# Altium footprint library TIDA-01415.PcbLib: 34 footprints (part 2 of 3)
Each footprint in its own frame and in the unit in brackets; x right, y up, seen from the top. Pads: shape width x height; smd on the part's side, far side on the other; paste and mask are expansions set on the pad; w line width, h text height; cw(c..) or ccw(c..) is an arc to the next point about the centre after c.
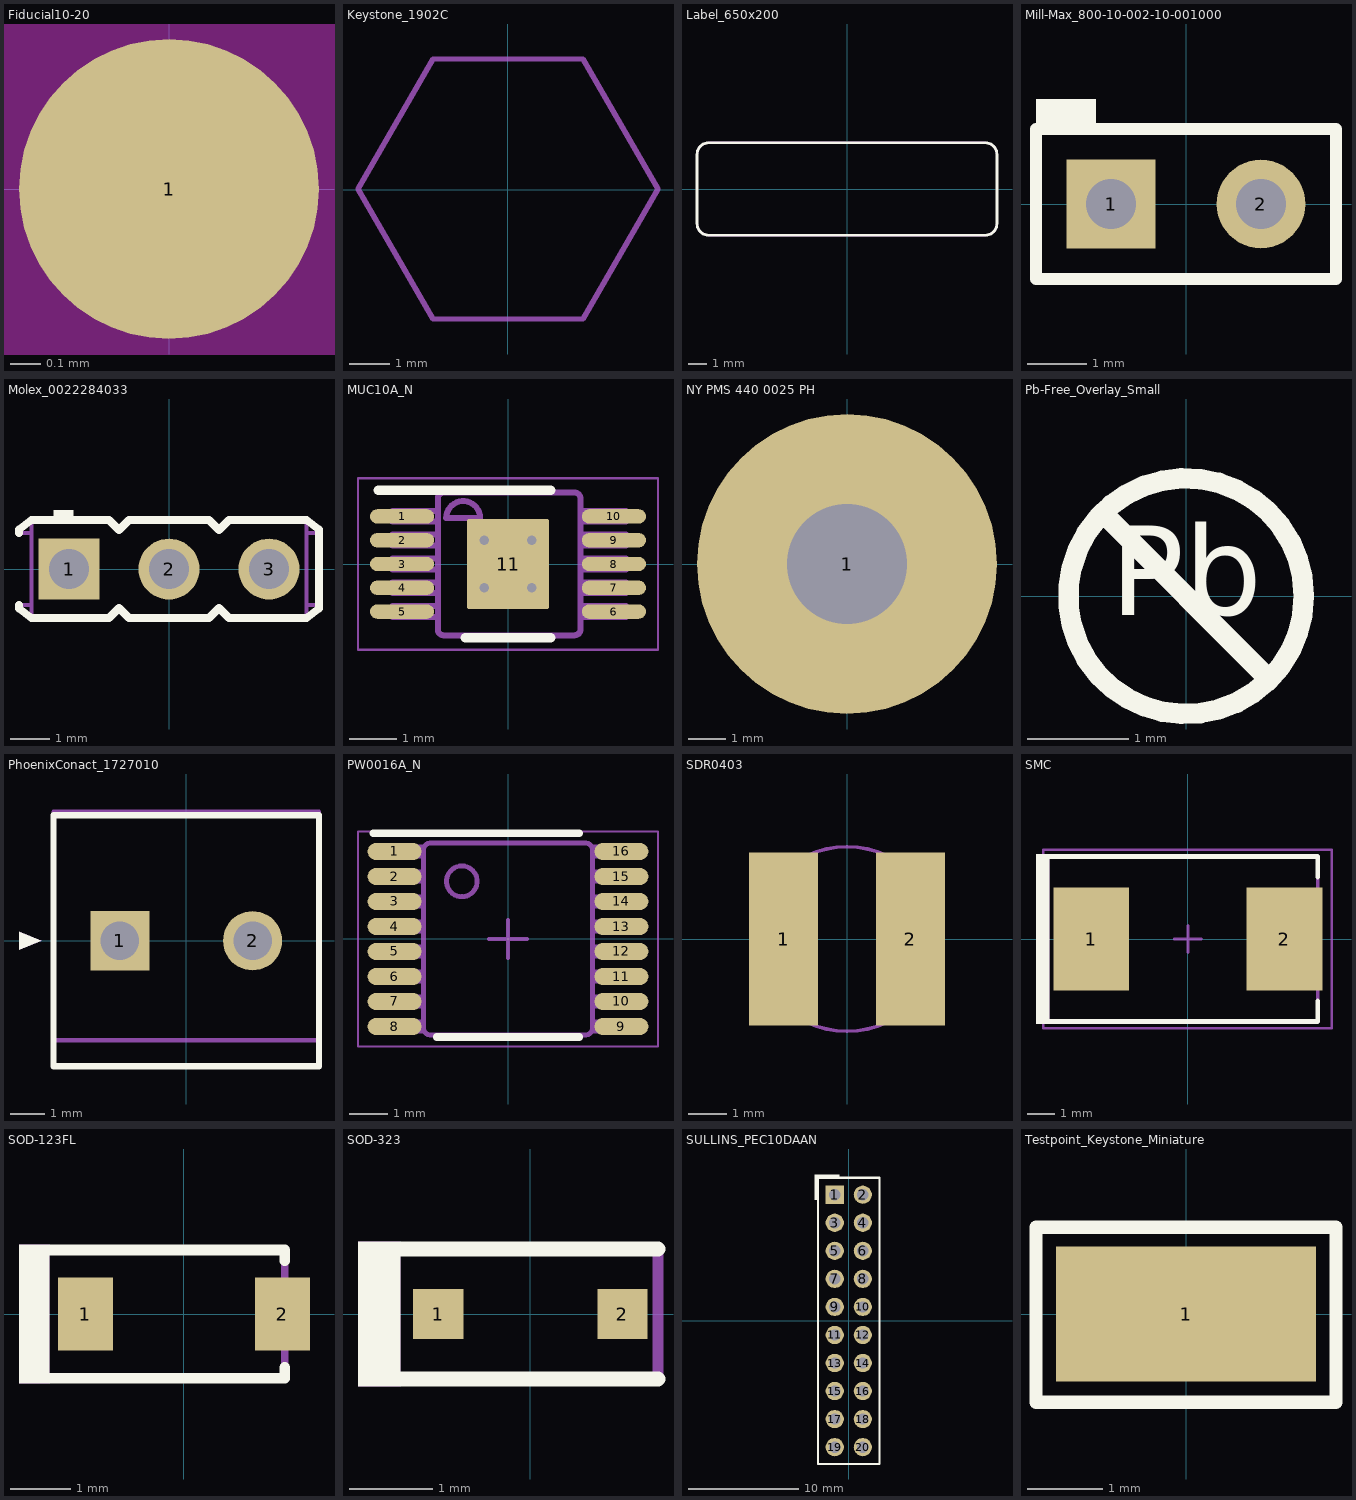
[diagram p1: the footprints below, top view; thin cyan lines are the x and y axes]

## Fiducial10-20 [mm]
pads (1):
  round 1 smd mask+0.5: 1(0,0)
Top Layer keep-out:
  circle w1.178: c0,0 r0.5

## Keystone_1902C [mm] "Hex Standoff, 4-40 threaded, nylon"
height 12.7
Mechanical 5:
  lines w0.127: -3.69,0.012 -1.843,3.212 1.852,3.212 3.7,0.012 1.852,-3.188 -1.843,-3.188 -3.69,0.012
  text ".Designator" at -1.041,-0.559 h0.76
3D body "Keystone_1902C.stp": height 12.73, standoff 0.03, extent -3.682,-3.2 3.708,3.2

## Label_650x200 [mm] "Thermal Transfer Label"
height 0.025
Top Overlay:
  lines w0.152: -8.255,-1.905 ccw(c-7.62,-1.905) -7.62,-2.54 7.62,-2.54 ccw(c7.62,-1.905) 8.255,-1.905 8.255,1.905 ccw(c7.62,1.905) 7.62,2.54 -7.62,2.54 ccw(c-7.62,1.905) -8.255,1.905 -8.255,-1.905
Mechanical 5:
  lines w0.127: -8.255,-1.905 ccw(c-7.62,-1.905) -7.62,-2.54 7.62,-2.54 ccw(c7.62,-1.905) 8.255,-1.905 8.255,1.905 ccw(c7.62,1.905) 7.62,2.54 -7.62,2.54 ccw(c-7.62,1.905) -8.255,1.905 -8.255,-1.905
  text ".Designator" at -1.524,-0.508 h0.76
3D body: height 0.03, standoff 0, extent -8.256,-2.541 8.256,2.541

## Mill-Max_800-10-002-10-001000 [mm] "Mill-Max"
height 8.128
pads (2):
  rect 1.5x1.5 hole 0.85: 1(-1.27,0)
  round 1.5 hole 0.85: 2(1.27,0)
Top Overlay:
  rectangle: -2.54,1.27 -1.524,1.778
  lines w0.203: -2.54,-1.27 2.54,-1.27 2.54,1.27 -2.54,1.27 -2.54,-1.27
Mechanical 5:
  lines w0.102: -2.54,-1.27 -2.54,1.27 2.54,1.27 2.54,-1.27 -2.54,-1.27
  text ".Designator" at 1.397,0.381 h0.76
3D body: height 3.17, standoff 0, extent -2.539,-1.269 2.539,1.269
3D body: height 8.13, standoff 0, extent 0.892,-0.38 1.651,0.38
3D body: height 8.13, standoff 0, extent -1.648,-0.38 -0.889,0.38
3D body: height 0.81, standoff -3, extent 0.968,-0.304 1.575,0.304
3D body: height 0.81, standoff -3, extent -1.572,-0.304 -0.965,0.304

## Molex_0022284033 [mm] "Header, 2.54mm, 3x1, TH"
height 8.88
pads (3):
  rect 1.55x1.55 hole 1.02: 1(-2.54,0)
  round 1.55 hole 1.02: 2(0,0) 3(2.54,0)
Top Overlay:
  rectangle: -2.93,1.245 -2.43,1.5
  lines w0.2: -3.81,-0.914 -3.81,-1.003 -3.492,-1.245 -1.524,-1.245 -1.27,-0.991 -1.016,-1.245 1.016,-1.245 1.27,-0.991 1.524,-1.245 3.492,-1.245 3.81,-1.003 3.81,-0.914 3.81,0.914 3.81,1.003 3.492,1.245 1.524,1.245 1.27,0.991 1.016,1.245 -1.016,1.245 -1.27,0.991 -1.524,1.245 -3.492,1.245 -3.81,1.003 -3.81,0.914
Mechanical 5:
  lines w0.1: -3.492,-1.168 -3.492,1.168 ; -3.492,-0.914 -3.81,-0.914 -3.81,-1.003 -3.492,-1.245 -1.524,-1.245 -1.27,-0.991 -1.016,-1.245 1.016,-1.245 1.27,-0.991 1.524,-1.245 3.492,-1.245 3.81,-1.003 3.81,-0.914 ; -3.492,0.914 -3.81,0.914 -3.81,1.003 -3.492,1.245 -1.524,1.245 -1.27,0.991 -1.016,1.245 1.016,1.245 1.27,0.991 1.524,1.245 3.492,1.245 3.81,1.003 3.81,0.914 ; 3.492,-1.168 3.492,1.168 ; 3.492,-0.914 3.81,-0.914 ; 3.492,0.914 3.81,0.914 ; 3.81,-0.914 3.81,0.914
  text ".Designator" at 1.155,0.33 h0.76
3D body "022284033.stp": height 8.4, standoff -3.16, extent -3.81,-1.244 3.81,1.245

## MUC10A_N [mm] "TSSOP, 10-Leads, Body 3x3mm, Pitch 0.5mm, Exposed Pad, IPC Medium Density"
height 1.1
pads (11):
  rrect100% 1.35x0.3 smd: 1(-2.225,1) 2(-2.225,0.5) 3(-2.225,0) 4(-2.225,-0.5) 5(-2.225,-1) 6(2.225,-1) 7(2.225,-0.5) 8(2.225,0) 9(2.225,0.5) 10(2.225,1)
  rrect6% 1.73x1.9 smd: 11(0,0)
via -0.5,0.5 diameter 0.5 hole 0.2
via 0.5,0.5 diameter 0.5 hole 0.2
via -0.5,-0.5 diameter 0.5 hole 0.2
via 0.5,-0.5 diameter 0.5 hole 0.2
Top Overlay:
  lines w0.2: -2.725,1.55 0.9,1.55 ; -0.9,-1.55 0.9,-1.55
Mechanical 5:
  lines w0.127: -2.427,-1.114 -2.427,-0.885 -2.187,-0.885 -2.067,-0.885 -2.064,-0.885 -1.76,-0.885 -1.474,-0.885 -1.474,-1.114 -1.76,-1.114 -2.064,-1.114 -2.067,-1.114 -2.187,-1.114 -2.427,-1.114 ; -2.427,-0.613 -2.427,-0.385 -2.187,-0.385 -2.067,-0.385 -2.064,-0.385 -1.76,-0.385 -1.474,-0.385 -1.474,-0.613 -1.76,-0.613 -2.064,-0.613 -2.067,-0.613 -2.187,-0.613 -2.427,-0.613 ; -2.427,-0.113 -2.427,0.116 -2.187,0.116 -2.067,0.116 -2.064,0.116 -1.76,0.116 -1.474,0.116 -1.474,-0.113 -1.76,-0.113 -2.064,-0.113 -2.067,-0.113 -2.187,-0.113 -2.427,-0.113 ; -2.427,0.388 -2.427,0.616 -2.187,0.616 -2.067,0.616 -2.064,0.616 -1.76,0.616 -1.474,0.616 -1.474,0.388 -1.76,0.388 -2.064,0.388 -2.067,0.388 -2.187,0.388 -2.427,0.388 ; -2.427,0.888 -2.427,1.116 -2.187,1.116 -2.067,1.116 -2.064,1.116 -1.76,1.116 -1.474,1.116 -1.474,0.888 -1.76,0.888 -2.064,0.888 -2.067,0.888 -2.187,0.888 -2.427,0.888 ; -1.474,-1.373 ccw(c-1.347,-1.37) -1.35,-1.497 -1.347,-1.497 1.396,-1.497 1.399,-1.497 ccw(c1.396,-1.37) 1.523,-1.373 1.523,-1.37 1.523,1.373 1.523,1.376 ccw(c1.396,1.373) 1.399,1.5 1.396,1.5 -1.347,1.5 -1.35,1.5 ccw(c-1.347,1.373) -1.474,1.376 -1.474,1.373 -1.474,-1.37 -1.474,-1.373 ; -1.296,0.967 cw(c-0.941,0.967) -0.585,0.967 -1.296,0.967 ; 1.523,-1.114 1.809,-1.114 2.113,-1.114 2.116,-1.114 2.236,-1.114 2.475,-1.114 2.475,-0.885 2.236,-0.885 2.116,-0.885 2.113,-0.885 1.809,-0.885 1.523,-0.885 1.523,-1.114 ; 1.523,-0.613 1.809,-0.613 2.113,-0.613 2.116,-0.613 2.236,-0.613 2.475,-0.613 2.475,-0.385 2.236,-0.385 2.116,-0.385 2.113,-0.385 1.809,-0.385 1.523,-0.385 1.523,-0.613 ; 1.523,-0.113 1.809,-0.113 2.113,-0.113 2.116,-0.113 2.236,-0.113 2.475,-0.113 2.475,0.116 2.236,0.116 2.116,0.116 2.113,0.116 1.809,0.116 1.523,0.116 1.523,-0.113 ; 1.523,0.388 1.809,0.388 2.113,0.388 2.116,0.388 2.236,0.388 2.475,0.388 2.475,0.616 2.236,0.616 2.116,0.616 2.113,0.616 1.809,0.616 1.523,0.616 1.523,0.388 ; 1.523,0.888 1.809,0.888 2.113,0.888 2.116,0.888 2.236,0.888 2.475,0.888 2.475,1.116 2.236,1.116 2.116,1.116 2.113,1.116 1.809,1.116 1.523,1.116 1.523,0.888
  text ".Designator" at -0.509,-0.459 h0.76
Mechanical 15:
  lines w0.05: -3.15,-1.8 -3.15,1.8 3.15,1.8 3.15,-1.8 -3.15,-1.8
  lines w0.1: -0.5,0 0.5,0 ; 0,-0.5 0,0.5
3D body "DGQ0010A.stp": height 0.96, standoff 0, extent -2.451,-1.499 2.451,1.499

## NY PMS 440 0025 PH [mm] "4-40 nylon screw and mounting hole"
height 1.905
pads (1):
  round 8 hole 3.2: 1(0,0)
Mechanical 5:
  circle w0.127: c0,0 r3.789
  text ".Designator" at -0.457,-0.457 h0.76
3D body "B_F_NY PMS 440 0025 PH.stp": height 2.69, standoff -8.74, extent -3.302,-3.3 3.296,3.3

## Pb-Free_Overlay_Small [mm]
Top Overlay:
  circle w0.203: c0,0 r1.168
  lines w0.203: -0.826,0.826 0.826,-0.826
  text "Pb" at -0.752,-0.48 h1.52

## PhoenixConact_1727010 [mm]
height 8.5
pads (2):
  rect 1.7x1.7 hole 1.1: 1(-1.905,0)
  round 1.7 hole 1.1: 2(1.905,0)
Top Overlay:
  region: -4.8,-0.254 -4.8,0.254 -4.165,0
  lines w0.178: -3.81,-3.6 0,-3.6 3.81,-3.6 3.81,0 3.81,3.6 0,3.6 -3.81,3.6 -3.81,0 -3.81,-3.6
Mechanical 5:
  region: -4.8,-0.254 -4.8,0.254 -4.165,0
  lines w0.127: -3.81,-2.861 3.81,-2.861 ; -3.81,-2.861 -3.81,-3.3 -3.81,-3.6 3.81,-3.6 3.81,-3.3 3.81,-2.861 ; -3.81,-2.861 -3.81,-2.049 -3.81,-1.566 -3.81,1.487 -3.81,1.962 -3.81,3.7 3.81,3.7 3.81,1.962 3.81,1.487 3.81,-1.566 3.81,-2.049 3.81,-2.861
  text ".Designator" at 0.483,0.508 h0.76
3D body "1727010.stp": height 8.52, standoff -3.48, extent -3.81,-3.599 3.81,3.701

## PW0016A_N [mm] "TSOP, 16-Leads, Body 5x4.4mm, Pitch 0.65mm, IPC Medium Density"
height 1.2
pads (16):
  oval 1.4x0.45 smd: 1(-2.95,2.275) 2(-2.95,1.625) 3(-2.95,0.975) 4(-2.95,0.325) 5(-2.95,-0.325) 6(-2.95,-0.975) 7(-2.95,-1.625) 8(-2.95,-2.275) 9(2.95,-2.275) 10(2.95,-1.625) 11(2.95,-0.975) 12(2.95,-0.325) 13(2.95,0.325) 14(2.95,0.975) 15(2.95,1.625) 16(2.95,2.275)
Top Overlay:
  lines w0.2: -3.5,2.75 1.85,2.75 ; -1.85,-2.55 1.85,-2.55
Mechanical 5:
  drawing of 202 lines, arcs and shapes, not listed
  text ".Designator" at 0.897,0.398 h0.76
Mechanical 15:
  lines w0.05: -3.9,-2.8 3.9,-2.8 3.9,2.8 -3.9,2.8 -3.9,-2.8
  lines w0.1: -0.5,0 0.5,0 ; 0,-0.5 0,0.5
3D body "PW0016A.stp": height 1, standoff 0, extent -3.21,-2.5 3.21,2.5

## SDR0403 [mm] "BOURNS"
height 3.3
pads (2):
  rect 1.8x4.5 smd: 1(-1.65,0) 2(1.65,0)
Mechanical 5:
  circle w0.1: c0,0 r2.4
  text ".Designator" at -0.635,-0.381 h0.76
3D body: height 0.8, standoff 0, extent -2.401,-2.401 2.401,2.401
3D body: height 2.6, standoff 0.8, extent -2.247,-2.247 2.247,2.247
3D body: height 3.3, standoff 2.6, extent -2.399,-2.399 2.399,2.399

## SMC [mil] "Molded Diode, 2-Leads, Body 6.9x5.8mm, IPC Medium Density, based on OnSemi component dimensions and land patterns"
height 94.88
pads (2):
  rect 110x150 smd: 1(-140.49,0) 2(140.49,0)
Top Overlay:
  rectangle: -221.04,-123.5 -201.04,123.5
  lines w7: -210,-120 189,-120 189,-90.25 ; -210,120 189,120 189,90.25
Mechanical 5:
  rectangle: -221.04,-123.5 -201.04,123.5
  lines w5: -210,-120 189,-120 189,120 -210,120
  text ".Designator" at -25.9,27 h30
Mechanical 15:
  lines w3.94: -19.69,0 19.68,0 ; 0,-19.68 0,19.68 ; -210.46,-129.92 209.38,-129.92 209.38,129.92 -210.46,129.92 -210.46,-129.92
3D body "SMC_nominal.stp": height 91.25, standoff 0.6, extent -156.49,-116.14 156.5,116.15

## SOD-123FL [mm] "Copied from SOD-123"
height 0.991
pads (2):
  rect 0.915x1.22 smd: 1(-1.637,0) 2(1.637,0)
Top Overlay:
  rectangle: -2.743,-1.155 -2.235,1.156
  lines w0.178: -2.438,-1.067 1.676,-1.067 1.676,-0.889 ; -2.438,1.067 1.676,1.067 1.676,0.889
Mechanical 5:
  rectangle: -2.743,-1.155 -2.235,1.156
  lines w0.127: -2.438,-1.067 1.676,-1.067 1.676,1.067 -2.438,1.067
  text ".Designator" at 0.141,0.445 h0.76
3D body "SOD-123FL.stp": height 1, standoff 0, extent -1.9,-0.9 1.9,0.9

## SOD-323 [mm] "NXP recommended land pattern"
height 1.15
pads (2):
  rect 0.6x0.6 smd paste-0.05: 1(-1.1,0) 2(1.1,0)
Top Overlay:
  rectangle: -2.057,-0.863 -1.549,0.864
  lines w0.178: -1.803,-0.775 0.1,-0.775 1.525,-0.775 ; -1.803,0.775 0.1,0.775 1.525,0.775
Mechanical 5:
  rectangle: -2.057,-0.863 -1.549,0.864
  lines w0.127: -1.803,-0.775 0.1,-0.775 1.525,-0.775 1.525,0.775 0.1,0.775 -1.803,0.775
  text ".Designator" at 0.475,0.395 h0.76
3D body "SOD-323.stp": height 1.1, standoff 0, extent -1.3,-0.675 1.3,0.675

## SULLINS_PEC10DAAN [mm] "SULLINS"
height 9.08
pads (20):
  rect 1.65x1.65 hole 1.016: 1(-1.27,11.43)
  round 1.65 hole 1.016: 2(1.27,11.43) 3(-1.27,8.89) 4(1.27,8.89) 5(-1.27,6.35) 6(1.27,6.35) 7(-1.27,3.81) 8(1.27,3.81) 9(-1.27,1.27) 10(1.27,1.27) 11(-1.27,-1.27) 12(1.27,-1.27) 13(-1.27,-3.81) 14(1.27,-3.81) 15(-1.27,-6.35) 16(1.27,-6.35) 17(-1.27,-8.89) 18(1.27,-8.89) 19(-1.27,-11.43) 20(1.27,-11.43)
Top Overlay:
  region: -0.824,12.875 -0.824,13.253 -3.114,13.253 -3.114,12.875
  rectangle: -3.114,10.964 -2.735,13.253
  lines w0.2: -2.79,-12.955 -2.79,12.955 2.79,12.955 2.79,-12.955 -2.79,-12.955
Mechanical 5:
  circle w0.1: c-1.27,11.43 r0.737
  lines w0.1: -2.79,-12.955 2.79,-12.955 2.79,12.955 -2.79,12.955 -2.79,-12.955
  text ".Designator" at -0.418,1.612 h0.76
3D body: height 3.04, standoff 0, extent -2.79,-12.955 2.79,12.955
3D body: height 3.05, standoff 3.04, extent -2.084,11.839 -1.685,12.237
3D body: height 9.08, standoff -3.3, extent 0.95,11.11 1.59,11.75
3D body: height 9.08, standoff -3.3, extent -1.59,11.11 -0.95,11.75
3D body: height 9.08, standoff -3.3, extent 0.95,8.57 1.59,9.21
3D body: height 9.08, standoff -3.3, extent -1.59,8.57 -0.95,9.21
3D body: height 9.08, standoff -3.3, extent 0.95,6.03 1.59,6.67
3D body: height 9.08, standoff -3.3, extent -1.59,6.03 -0.95,6.67
3D body: height 9.08, standoff -3.3, extent 0.95,3.49 1.59,4.13
3D body: height 9.08, standoff -3.3, extent -1.59,3.49 -0.95,4.13
3D body: height 9.08, standoff -3.3, extent 0.95,0.95 1.59,1.59
3D body: height 9.08, standoff -3.3, extent -1.59,0.95 -0.95,1.59
3D body: height 9.08, standoff -3.3, extent 0.95,-1.59 1.59,-0.95
3D body: height 9.08, standoff -3.3, extent -1.59,-1.59 -0.95,-0.95
3D body: height 9.08, standoff -3.3, extent 0.95,-4.13 1.59,-3.49
3D body: height 9.08, standoff -3.3, extent -1.59,-4.13 -0.95,-3.49
3D body: height 9.08, standoff -3.3, extent 0.95,-6.67 1.59,-6.03
3D body: height 9.08, standoff -3.3, extent -1.59,-6.67 -0.95,-6.03
3D body: height 9.08, standoff -3.3, extent 0.95,-9.21 1.59,-8.57
3D body: height 9.08, standoff -3.3, extent -1.59,-9.21 -0.95,-8.57
3D body: height 9.08, standoff -3.3, extent 0.95,-11.75 1.59,-11.11
3D body: height 9.08, standoff -3.3, extent -1.59,-11.75 -0.95,-11.11

## Testpoint_Keystone_Miniature [mil] "Miniature SMT test point"
height 90.55
pads (1):
  rect 135x70 smd: 1(0,0)
Top Overlay:
  lines w7: -78,-46 -78,-38 -78,45 -65,45 5,45 78,45 78,-46 -78,-46
Mechanical 5:
  lines w5: -78,-46 78,-46 78,45 5,45 -65,45 -78,45 -78,-38 -78,-46
  text ".Designator" at -48,-16 h30
3D body "keystone_5015.stp": height 60.6, standoff 0.6, extent -52.5,-20 52.5,20